# Altium schematic symbol library Calibration_Laser_Board.SchLib: 3 symbols
Pins are listed as number, name and electrical type; pins without a type are passive.

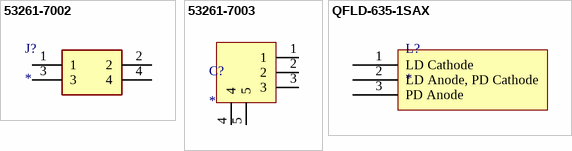
[diagram p0: symbols 53261-7002 to QFLD-635-1SAX]

## 53261-7002
designator J?
Connector; Manufacturer_Name: Molex; Manufacturer_Part_Number: 53261-7002; Datasheet Link: https://www.molex.com/pdm_docs/sd/532617002_sd.pdf; Height: 3.4mm; Mouser Part Number: 538-53261-7002; Mouser Price/Stock: https://www.mouser.com/Search/Refine.aspx?Keyword=538-53261-7002
footprint 532617002
pins: 1, 2, 3, 4

## 53261-7003
designator C?
footprint 532617003
pins: 1, 2, 3, 4, 5

## QFLD-635-1SAX
designator L?
footprint QFLD-635-1SAX
pins: 1 LD Cathode, 2 LD Anode, PD Cathode, 3 PD Anode